# EAGLE library part MB91F669PMC-G-JNE1 (library Fujitsu_By_element14_Batch_1)
32-bit Microcontrollers
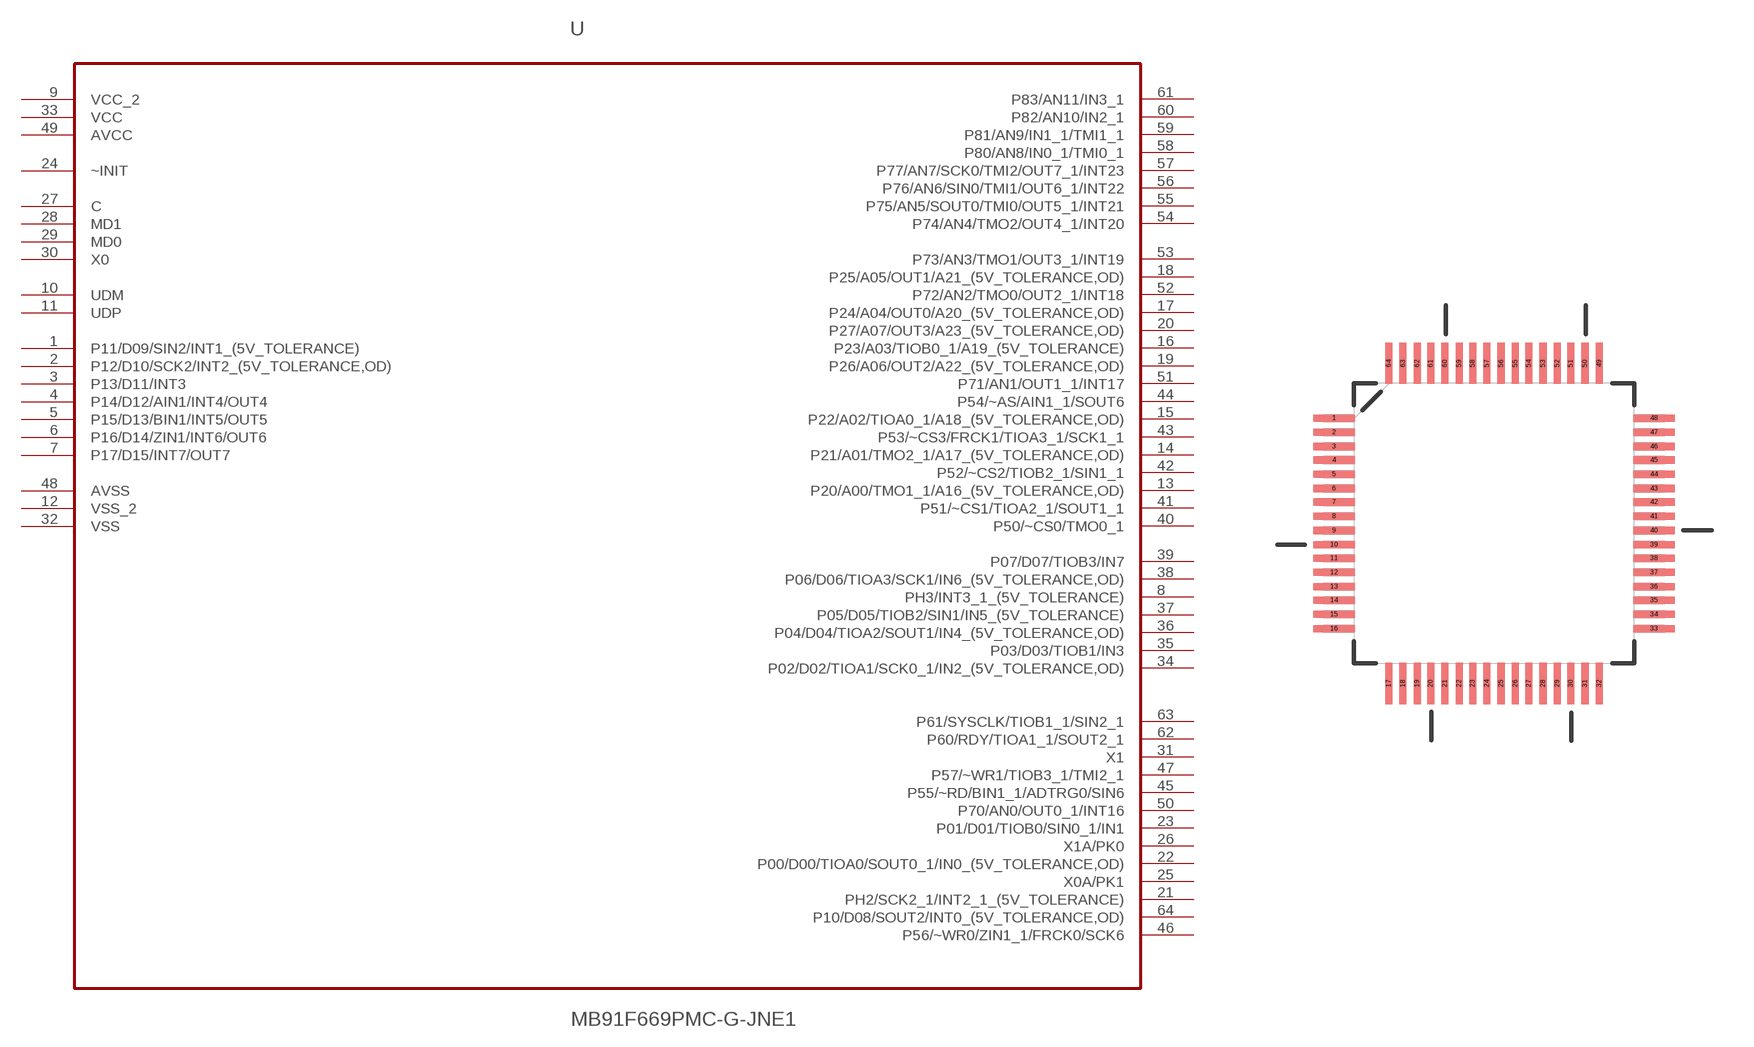
[diagram p4: symbol with the pads of QFP50P1200X1200X170-64N; footprint QFP50P1200X1200X170-64N]

Designator prefix U

## MB91F669PMC-G-JNE1 (MPN: MB91F669PMC-G-JNE1; OC_FARNELL: 1831976; OC_NEWARK: 93R5176; PACKAGE: QFP-64; SUPPLIER: FUJITSU)  [QFP50P1200X1200X170-64N]
1  P11/D09/SIN2/INT1_(5V_TOLERANCE)
2  P12/D10/SCK2/INT2_(5V_TOLERANCE,OD)
3  P13/D11/INT3
4  P14/D12/AIN1/INT4/OUT4
5  P15/D13/BIN1/INT5/OUT5
6  P16/D14/ZIN1/INT6/OUT6
7  P17/D15/INT7/OUT7
8  PH3/INT3_1_(5V_TOLERANCE)
9  VCC_2
10  UDM  in
11  UDP  in
12  VSS_2  pas
13  P20/A00/TMO1_1/A16_(5V_TOLERANCE,OD)
14  P21/A01/TMO2_1/A17_(5V_TOLERANCE,OD)
15  P22/A02/TIOA0_1/A18_(5V_TOLERANCE,OD)
16  P23/A03/TIOB0_1/A19_(5V_TOLERANCE)
17  P24/A04/OUT0/A20_(5V_TOLERANCE,OD)
18  P25/A05/OUT1/A21_(5V_TOLERANCE,OD)
19  P26/A06/OUT2/A22_(5V_TOLERANCE,OD)
20  P27/A07/OUT3/A23_(5V_TOLERANCE,OD)
21  PH2/SCK2_1/INT2_1_(5V_TOLERANCE)
22  P00/D00/TIOA0/SOUT0_1/IN0_(5V_TOLERANCE,OD)
23  P01/D01/TIOB0/SIN0_1/IN1
24  ~INIT  in
25  X0A/PK1
26  X1A/PK0
27  C  in
28  MD1  in
29  MD0  in
30  X0  in
31  X1  out
32  VSS  pas
33  VCC  pwr
34  P02/D02/TIOA1/SCK0_1/IN2_(5V_TOLERANCE,OD)
35  P03/D03/TIOB1/IN3
36  P04/D04/TIOA2/SOUT1/IN4_(5V_TOLERANCE,OD)
37  P05/D05/TIOB2/SIN1/IN5_(5V_TOLERANCE)
38  P06/D06/TIOA3/SCK1/IN6_(5V_TOLERANCE,OD)
39  P07/D07/TIOB3/IN7
40  P50/~CS0/TMO0_1
41  P51/~CS1/TIOA2_1/SOUT1_1
42  P52/~CS2/TIOB2_1/SIN1_1
43  P53/~CS3/FRCK1/TIOA3_1/SCK1_1
44  P54/~AS/AIN1_1/SOUT6
45  P55/~RD/BIN1_1/ADTRG0/SIN6
46  P56/~WR0/ZIN1_1/FRCK0/SCK6
47  P57/~WR1/TIOB3_1/TMI2_1
48  AVSS  pas
49  AVCC  pwr
50  P70/AN0/OUT0_1/INT16
51  P71/AN1/OUT1_1/INT17
52  P72/AN2/TMO0/OUT2_1/INT18
53  P73/AN3/TMO1/OUT3_1/INT19
54  P74/AN4/TMO2/OUT4_1/INT20
55  P75/AN5/SOUT0/TMI0/OUT5_1/INT21
56  P76/AN6/SIN0/TMI1/OUT6_1/INT22
57  P77/AN7/SCK0/TMI2/OUT7_1/INT23
58  P80/AN8/IN0_1/TMI0_1
59  P81/AN9/IN1_1/TMI1_1
60  P82/AN10/IN2_1
61  P83/AN11/IN3_1
62  P60/RDY/TIOA1_1/SOUT2_1
63  P61/SYSCLK/TIOB1_1/SIN2_1
64  P10/D08/SOUT2/INT0_(5V_TOLERANCE,OD)

## Footprint QFP50P1200X1200X170-64N (pad centres in mm)
smd 1.473 x 0.254: 1 -5.715,3.759; 2 -5.715,3.251; 3 -5.715,2.743; 4 -5.715,2.261; 5 -5.715,1.753; 6 -5.715,1.245; 7 -5.715,0.762; 8 -5.715,0.254; 9 -5.715,-0.254; 10 -5.715,-0.762; 11 -5.715,-1.245; 12 -5.715,-1.753; 13 -5.715,-2.261; 14 -5.715,-2.743; 15 -5.715,-3.251; 16 -5.715,-3.759; 33 5.715,-3.759; 34 5.715,-3.251; 35 5.715,-2.743; 36 5.715,-2.261; 37 5.715,-1.753; 38 5.715,-1.245; 39 5.715,-0.762; 40 5.715,-0.254; 41 5.715,0.254; 42 5.715,0.762; 43 5.715,1.245; 44 5.715,1.753; 45 5.715,2.261; 46 5.715,2.743; 47 5.715,3.251; 48 5.715,3.759
smd 0.254 x 1.473: 17 -3.759,-5.715; 18 -3.251,-5.715; 19 -2.743,-5.715; 20 -2.261,-5.715; 21 -1.753,-5.715; 22 -1.245,-5.715; 23 -0.762,-5.715; 24 -0.254,-5.715; 25 0.254,-5.715; 26 0.762,-5.715; 27 1.245,-5.715; 28 1.753,-5.715; 29 2.261,-5.715; 30 2.743,-5.715; 31 3.251,-5.715; 32 3.759,-5.715; 49 3.759,5.715; 50 3.251,5.715; 51 2.743,5.715; 52 2.261,5.715; 53 1.753,5.715; 54 1.245,5.715; 55 0.762,5.715; 56 0.254,5.715; 57 -0.254,5.715; 58 -0.762,5.715; 59 -1.245,5.715; 60 -1.753,5.715; 61 -2.261,5.715; 62 -2.743,5.715; 63 -3.251,5.715; 64 -3.759,5.715